# Altium schematic symbol library Communication.Schlib: 4 symbols
Pins are listed as number, name and electrical type; pins without a type are passive.

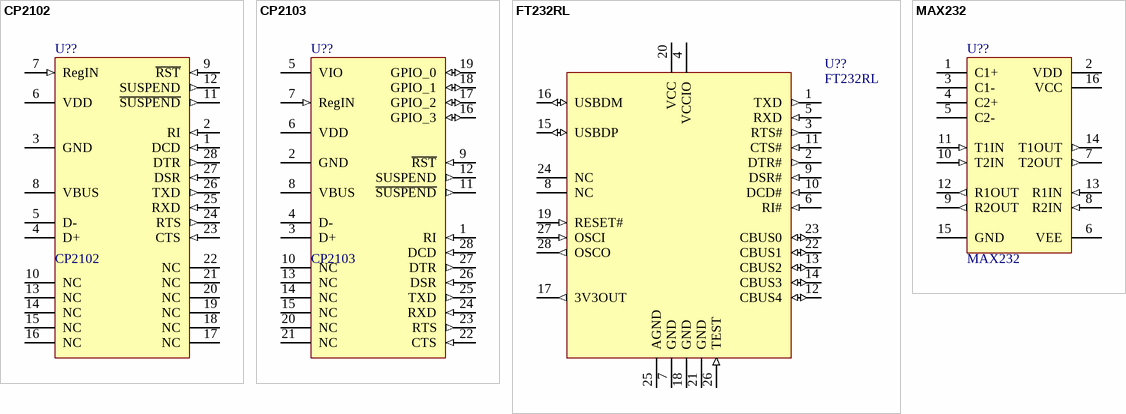
[diagram p0: symbols CP2102 to MAX232]

## CP2102
designator U??
+5V Powered RS-232 Driver/Receiver
footprint QFN-S28_N (28-Pin Saw Version Quad Flat No-Lead 0.65 mm Pitch, IPC Medium Density)
pins: 1 DCD (in), 2 RI (in), 3 GND (power), 4 D+, 5 D-, 6 VDD (power), 7 RegIN (in), 8 VBUS (power), 9 ~{RST} (in), 10 NC, 11 ~{SUSPEND} (out), 12 SUSPEND (out), 13 NC, 14 NC, 15 NC, 16 NC, 17 NC, 18 NC, 19 NC, 20 NC, 21 NC, 22 NC, 23 CTS (in), 24 RTS (out), 25 RXD (in), 26 TXD (out), 27 DSR (in), 28 DTR (out)

## CP2103
designator U??
+5V Powered RS-232 Driver/Receiver with GPIOs
footprint QFN-S28_N (28-Pin Saw Version Quad Flat No-Lead 0.65 mm Pitch, IPC Medium Density)
pins: 1 RI (in), 2 GND (power), 3 D+, 4 D-, 5 VIO, 6 VDD (power), 7 RegIN (in), 8 VBUS (power), 9 ~{RST} (in), 10 NC, 11 ~{SUSPEND} (out), 12 SUSPEND (out), 13 NC, 14 NC, 15 NC, 16 GPIO_3 (io), 17 GPIO_2 (io), 18 GPIO_1 (io), 19 GPIO_0 (io), 20 NC, 21 NC, 22 CTS (in), 23 RTS (out), 24 RXD (in), 25 TXD (out), 26 DSR (in), 27 DTR (out), 28 DCD (in)

## FT232RL
designator U??
USB UART Asynchronous Serial Data Transfer Chip, LQFP-32, Pb-Free; Published: 6-Oct-2005; LatestRevisionDate: 13-Apr-2006; LatestRevisionNote: IPC-7351 Footprint Added.; DatasheetVersion: ver 1.7, Feb-2005; PackageVersion: Mar-2004; PackageReference: LQFP-32; Publisher: Altium Limited; PackageDescription: 32-Pin Thin Quad Flat Pack 0.8 mm Pitch; ComponentLink1Description: Manufacturer Link; ComponentLink1URL: http://www.ftdichip.com/Products/FT232BM.htm; ComponentLink2Description: Datasheet; ComponentLink2URL: http://www.ftdichip.com/Documents/DataSheets/ds232bl17.pdf
footprint SSOP28 (SSOP, Plastic; 28 Leads; Body Width 5.3 mm; Pitch 0.65 mm)
pins: 1 TXD (out), 2 DTR# (out), 3 RTS# (out), 4 VCCIO (power), 5 RXD (in), 6 RI# (in), 7 GND (power), 8 NC, 9 DSR# (in), 10 DCD# (in), 11 CTS# (in), 12 CBUS4 (io), 13 CBUS2 (io), 14 CBUS3 (io), 15 USBDP (io), 16 USBDM (io), 17 3V3OUT (out), 18 GND (power), 19 RESET# (in), 20 VCC (power), 21 GND (power), 22 CBUS1 (io), 23 CBUS0 (io), 24 NC, 25 AGND (power), 26 TEST (in), 27 OSCI (in), 28 OSCO (out)

## MAX232
designator U??
+5V Powered RS-232 Driver/Receiver
footprint DIP16 (DIP; 16 Leads; Row Spacing 7.62 mm; Pitch 2.54 mm)
pins: 1 C1+, 2 VDD (power), 3 C1-, 4 C2+, 5 C2-, 6 VEE (power), 7 T2OUT (out), 8 R2IN (in), 9 R2OUT (out), 10 T2IN (in), 11 T1IN (in), 12 R1OUT (out), 13 R1IN (in), 14 T1OUT (out), 15 GND (power), 16 VCC (power)